# Altium schematic symbol library Voltage References.SchLib: 1 symbol
Pins are listed as number, name and electrical type; pins without a type are passive.

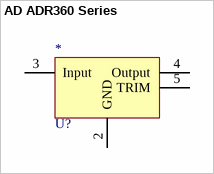
[diagram p0: symbol AD ADR360 Series]

## AD ADR360 Series
designator U?
AD ADR360 Series; Part Number: *
pins: 1 NC hidden "Not Connected", 2 GND (power), 3 Input (power), 4 Output (power), 5 TRIM "The ADR36x trim terminal can be used to adjust the output voltage over a nominal voltage."